# Altium footprint library LM3915N.PcbLib: 1 footprints
Each footprint in its own frame and in the unit in brackets; x right, y up, seen from the top. Pads: shape width x height; smd on the part's side, far side on the other; paste and mask are expansions set on the pad; w line width, h text height; cw(c..) or ccw(c..) is an arc to the next point about the centre after c.
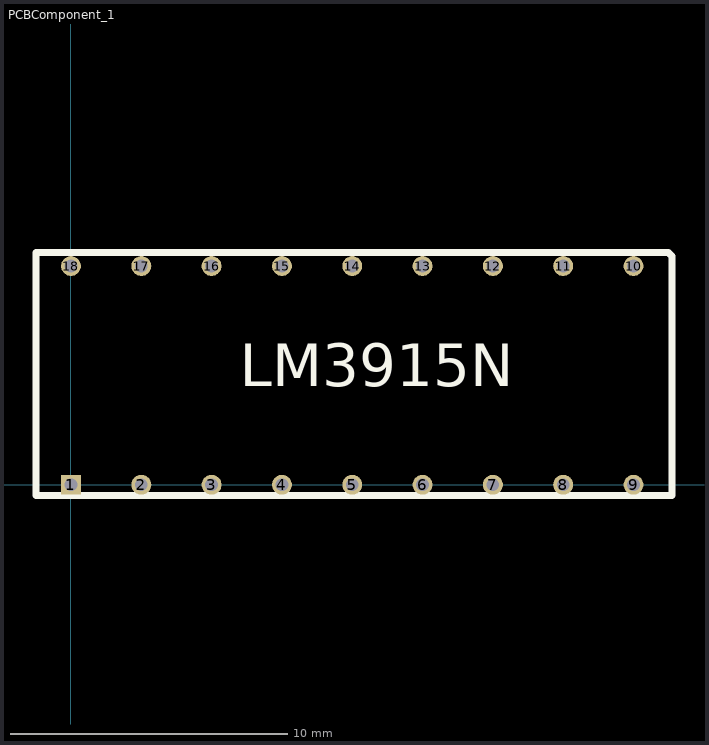
[diagram p0: the footprint, top view; thin cyan lines are the x and y axes]

## PCBComponent_1 [mm]
pads (18):
  rect 0.72x0.72 hole 0.46: 1(0,0)
  round 0.72 hole 0.46: 2(2.54,0) 3(5.08,0) 4(7.62,0) 5(10.16,0) 6(12.7,0) 7(15.24,0) 8(17.78,0) 9(20.32,0) 10(20.32,7.9) 11(17.78,7.9) 12(15.24,7.9) 13(12.7,7.9) 14(10.16,7.9) 15(7.62,7.9) 16(5.08,7.9) 17(2.54,7.9) 18(0,7.9)
Top Overlay:
  lines w0.254: -1.27,-0.381 21.717,-0.381 21.717,8.128 21.717,8.255 21.59,8.382 -1.27,8.382 -1.27,-0.381
  text "LM3915N" at 6.096,3.556 h1.52
3D body "LM3915N-1_NOPB.stp": height 5.33, standoff -3.5, extent -1.27,-0.171 21.59,8.045